# Altium integrated library RASPBERRY_PI_B_.IntLib: 1 symbol
Pins are listed as number, name and electrical type; pins without a type are passive.

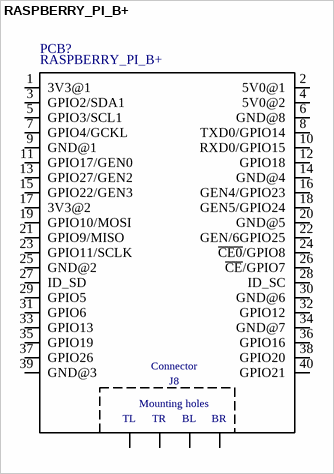
[diagram p0: symbol RASPBERRY_PI_B+]

## RASPBERRY_PI_B+
designator PCB?
Single Board Computer; 700Mhz; 512Mb RAM; 85.6x53.98x17mm; Raspberry Pi B+ Series; Availability: Unavailable; Price: None; SnapEDA_Link: https://www.snapeda.com/parts/RASPBERRY%20PI%20B%2B/Raspberry%20Pi/view-part/?ref=snap; MF: Raspberry Pi; MP: RASPBERRY PI B+; Package: None; Value: *
footprint *RASPBERRY_PI_B+_RASPBERRY_PI_B+(Primary)
pins: 1 3V3@1 (power), 2 5V0@1 (power), 3 GPIO2/SDA1 (io), 4 5V0@2 (power), 5 GPIO3/SCL1 (io), 6 GND@8 (power), 7 GPIO4/GCKL (io), 8 TXD0/GPIO14 (io), 9 GND@1 (power), 10 RXD0/GPIO15 (io), 11 GPIO17/GEN0 (io), 12 GPIO18 (io), 13 GPIO27/GEN2 (io), 14 GND@4 (power), 15 GPIO22/GEN3 (io), 16 GEN4/GPIO23 (io), 17 3V3@2 (power), 18 GEN5/GPIO24 (io), 19 GPIO10/MOSI (io), 20 GND@5 (power), 21 GPIO9/MISO (io), 22 GEN/6GPIO25 (io), 23 GPIO11/SCLK (io), 24 ~{CE0}/GPIO8 (io), 25 GND@2 (power), 26 ~{CE}/GPIO7 (io), 27 ID_SD (io), 28 ID_SC (io), 29 GPIO5 (io), 30 GND@6 (power), 31 GPIO6 (io), 32 GPIO12 (io), 33 GPIO13 (io), 34 GND@7 (power), 35 GPIO19 (io), 36 GPIO16 (io), 37 GPIO26 (io), 38 GPIO20 (io), 39 GND@3 (power), 40 GPIO21 (io), PE_BL BL (io), PE_BR BR (io), PE_TL TL (io), PE_TR TR (io)
text: Connector; J8; Mounting holes